# Altium schematic symbol library BCS-119-L-D-TE.SchLib: 1 symbol
Pins are listed as number, name and electrical type; pins without a type are passive.

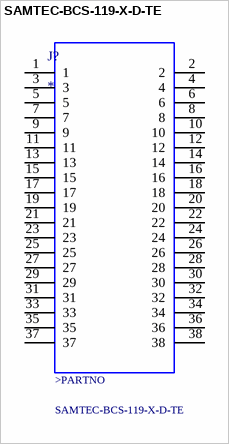
[diagram p0: symbol SAMTEC-BCS-119-X-D-TE]

## SAMTEC-BCS-119-X-D-TE
designator J?
MP: SAMTEC-BCS-119-X-D-TE; MF: {'manufacturer': u'Samtec Inc.'}; Value: *; Availability: Unavailable; Package: None; Price: None
footprint SAMTEC-BCS-119-X-D-TE
pins: 1, 2, 3, 4, 5, 6, 7, 8, 9, 10, 11, 12, 13, 14, 15, 16, 17, 18, 19, 20, 21, 22, 23, 24, 25, 26, 27, 28, 29, 30, 31, 32, 33, 34, 35, 36, 37, 38
text: >PARTNO